# EAGLE library part DM631 (library _LedDrivers)
DM631 Author: brunql.github.com
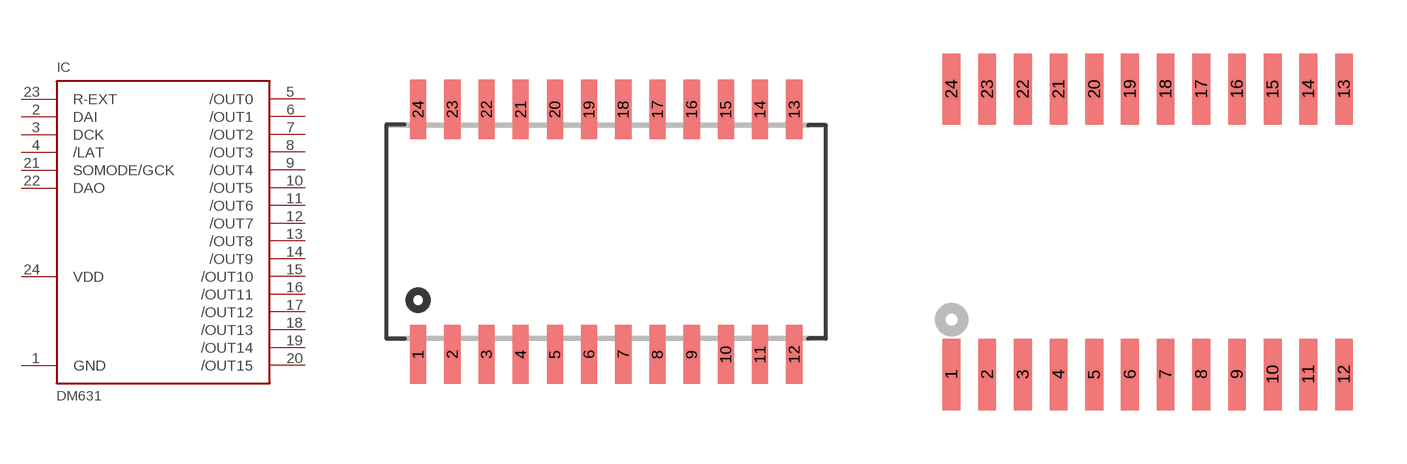
[diagram p1: symbol with the pads of SOP24-300-1.27; footprints SOP24-300-1.27, SOP24-300-1.00]

Designator prefix IC

## DM631_SOP24  [SOP24-300-1.27]
1  GND
2  DAI
3  DCK
4  /LAT
5  /OUT0
6  /OUT1
7  /OUT2
8  /OUT3
9  /OUT4
10  /OUT5
11  /OUT6
12  /OUT7
13  /OUT8
14  /OUT9
15  /OUT10
16  /OUT11
17  /OUT12
18  /OUT13
19  /OUT14
20  /OUT15
21  SOMODE/GCK
22  DAO
23  R-EXT
24  VDD

## DM631_SSOP24  [SOP24-300-1.00]
Pads as for SOP24-300-1.27

## Footprint SOP24-300-1.27 (pad centres in mm)
SMALL OUTLINE PACKAGE
smd 0.6 x 2.2: 1 -6.85,-4.635; 2 -5.58,-4.635; 3 -4.31,-4.635; 4 -3.04,-4.635; 5 -1.77,-4.635; 6 -0.5,-4.635; 7 0.77,-4.635; 8 2.04,-4.635; 9 3.31,-4.635; 10 4.58,-4.635; 11 5.85,-4.635; 12 7.12,-4.635; 13 7.12,4.47; 14 5.85,4.47; 15 4.58,4.47; 16 3.31,4.47; 17 2.04,4.47; 18 0.77,4.47; 19 -0.5,4.47; 20 -1.77,4.47; 21 -3.04,4.47; 22 -4.31,4.47; 23 -5.58,4.47; 24 -6.85,4.47

## Footprint SOP24-300-1.00 (pad centres in mm)
SMALL OUTLINE PACKAGE
smd 0.5 x 2: 1 -5.48,-4.08; 2 -4.48,-4.08; 3 -3.48,-4.08; 4 -2.48,-4.08; 5 -1.48,-4.08; 6 -0.48,-4.08; 7 0.52,-4.08; 8 1.52,-4.08; 9 2.52,-4.08; 10 3.52,-4.08; 11 4.52,-4.08; 12 5.52,-4.08; 13 5.52,3.92; 14 4.52,3.92; 15 3.52,3.92; 16 2.52,3.92; 17 1.52,3.92; 18 0.52,3.92; 19 -0.48,3.92; 20 -1.48,3.92; 21 -2.48,3.92; 22 -3.48,3.92; 23 -4.48,3.92; 24 -5.48,3.92